# EAGLE library part ATTINY20 (library VineBadge)
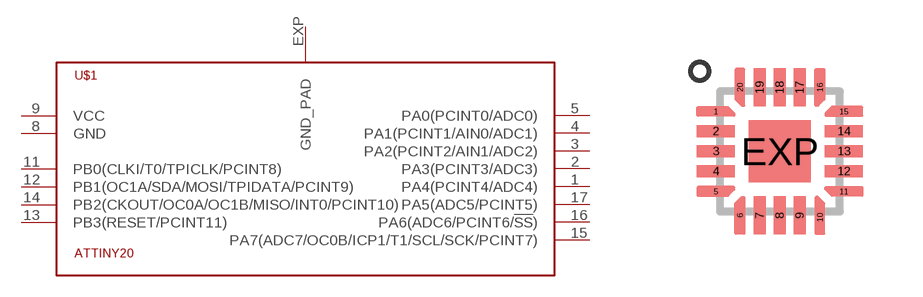
[diagram p0: symbol with the pads of QFN20; footprint QFN20]

Designator prefix -; gates G$1=GND_PAD G$2=ATTINY20

## ATTINY20  [QFN20]
1  G$2:PA4(PCINT4/ADC4)
2  G$2:PA3(PCINT3/ADC3)
3  G$2:PA2(PCINT2/AIN1/ADC2)
4  G$2:PA1(PCINT1/AIN0/ADC1)
5  G$2:PA0(PCINT0/ADC0)
8  G$2:GND
9  G$2:VCC
11  G$2:PB0(CLKI/T0/TPICLK/PCINT8)
12  G$2:PB1(OC1A/SDA/MOSI/TPIDATA/PCINT9)
13  G$2:PB3(RESET/PCINT11)
14  G$2:PB2(CKOUT/OC0A/OC1B/MISO/INT0/PCINT10)
15  G$2:PA7(ADC7/OC0B/ICP1/T1/SCL/SCK/PCINT7)
16  G$2:PA6(ADC6/PCINT6/!SS!)
17  G$2:PA5(ADC5/PCINT5)
EXP  G$1:GND_PAD

## Footprint QFN20 (pad centres in mm)
ES Package, 20-Contact QFN with Exposed Thermal Pad Data sheet <http://www.allegromicro.com/en/Products/Part_Numbers/3906/3906.pdf>
smd 0.01 x 0.01: 1 -1.6,1; 5 -1.6,-1; 6 -1,-1.6; 10 1,-1.65; 11 1.6,-1; 15 1.6,1; 16 1,1.6; 20 -1,1.6
smd 0.95 x 0.3: 2 -1.6,0.5; 3 -1.6,0; 4 -1.6,-0.5; 12 1.6,-0.5; 13 1.6,0; 14 1.6,0.5
smd 0.3 x 0.95: 7 -0.5,-1.6; 8 0,-1.6; 9 0.5,-1.6; 17 0.5,1.6; 18 0,1.6; 19 -0.5,1.6
smd 1.55 x 1.55: EXP 0,0